# Altium schematic symbol library Microchip 8-bit u_controllers.SchLib: 1 symbol
Pins are listed as number, name and electrical type; pins without a type are passive.

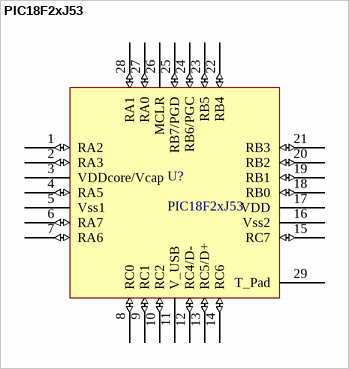
[diagram p0: symbol PIC18F2xJ53]

## PIC18F2xJ53
designator U?
Microcontroller
footprint QFN_28N_0.65p_6.60x6.60mm (QFN, 28-Leads, Body 6.0x6.0mm (max), Pitch 0.65mm, IPC Medium Density)
pins: 1 RA2 (io), 2 RA3 (io), 3 VDDcore/Vcap (power), 4 RA5 (io), 5 Vss1 (power), 6 RA7 (io), 7 RA6 (io), 8 RC0 (io), 9 RC1 (io), 10 RC2 (io), 11 V_USB (power), 12 RC4/D- (io), 13 RC5/D+ (io), 14 RC6 (io), 15 RC7 (io), 16 Vss2 (power), 17 VDD (power), 18 RB0 (io), 19 RB1 (io), 20 RB2 (io), 21 RB3 (io), 22 RB4 (io), 23 RB5 (io), 24 RB6/PGC (io), 25 RB7/PGD (io), 26 MCLR, 27 RA0 (io), 28 RA1 (io), 29 T_Pad